# EAGLE library part ESP32-C3-DEVKITM-1 (library ESP32-C3-DEVKITM-1)
Check availability <https://pricing.snapeda.com/parts/ESP32-C3-DEVKITM-1/Espressif%20Systems/view-part?ref=eda>
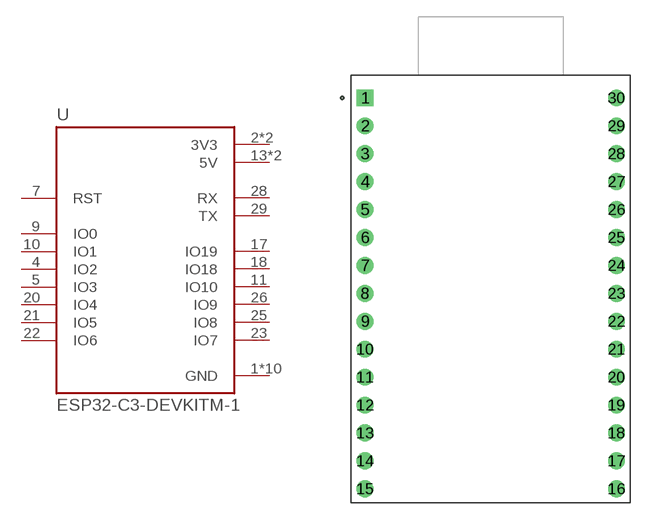
[diagram p0: symbol with the pads of XCVR_ESP32-C3-DEVKITM-1; footprint XCVR_ESP32-C3-DEVKITM-1]

Designator prefix U

## ESP32-C3-DEVKITM-1 (Availability: In Stock; Description: WiFi Development Tools (802.11) (ENGINEERING SAMPLE ONLY) ESP32-C3 General-Purpose Dev Board, Embeds ESP32-C3-MINI-1, 4 MB Flash, w/ Pin Header; MF: Espressif Systems; MP: ESP32-C3-DEVKITM-1; Package: None; Price: None; Purchase-URL: https://pricing.snapeda.com/search/part/ESP32-C3-DEVKITM-1/?ref=eda)  [XCVR_ESP32-C3-DEVKITM-1]
1  GND  pwr
2  3V3  pwr
3  3V3  pwr
4  IO2
5  IO3
6  GND  pwr
7  RST  in
8  GND  pwr
9  IO0
10  IO1
11  IO10
12  GND  pwr
13  5V  pwr
14  5V  pwr
15  GND  pwr
16  GND  pwr
17  IO19
18  IO18
19  GND  pwr
20  IO4
21  IO5
22  IO6
23  IO7
24  GND  pwr
25  IO8
26  IO9
27  GND  pwr
28  RX
29  TX
30  GND  pwr

## Footprint XCVR_ESP32-C3-DEVKITM-1 (pad centres in mm)
drill 1.02 square: 1 -11.43,17.395
drill 1.02: 2 -11.43,14.855; 3 -11.43,12.315; 4 -11.43,9.775; 5 -11.43,7.235; 6 -11.43,4.695; 7 -11.43,2.155; 8 -11.43,-0.385; 9 -11.43,-2.925; 10 -11.43,-5.465; 11 -11.43,-8.005; 12 -11.43,-10.545; 13 -11.43,-13.085; 14 -11.43,-15.625; 15 -11.43,-18.165; 16 11.43,-18.165; 17 11.43,-15.625; 18 11.43,-13.085; 19 11.43,-10.545; 20 11.43,-8.005; 21 11.43,-5.465; 22 11.43,-2.925; 23 11.43,-0.385; 24 11.43,2.155; 25 11.43,4.695; 26 11.43,7.235; 27 11.43,9.775; 28 11.43,12.315; 29 11.43,14.855; 30 11.43,17.395